# Altium integrated library Toshiba.IntLib: 2 symbols
Pins are listed as number, name and electrical type; pins without a type are passive.

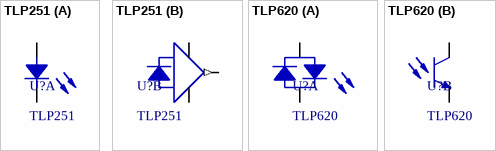
[diagram p0: symbols TLP251 to TLP620]

## TLP251
designator U?
Photocoupler
footprint DIP8
part A pins: 2, 3
part B pins: 5 (power), 6 (out), 8 (power)

## TLP620
designator U?
TOSHIBA Photocoupler
footprint DIP4
part A pins: 1, 2
part B pins: 3, 4